# Altium schematic symbol library SIMA.SchLib: 8 symbols
Pins are listed as number, name and electrical type; pins without a type are passive.

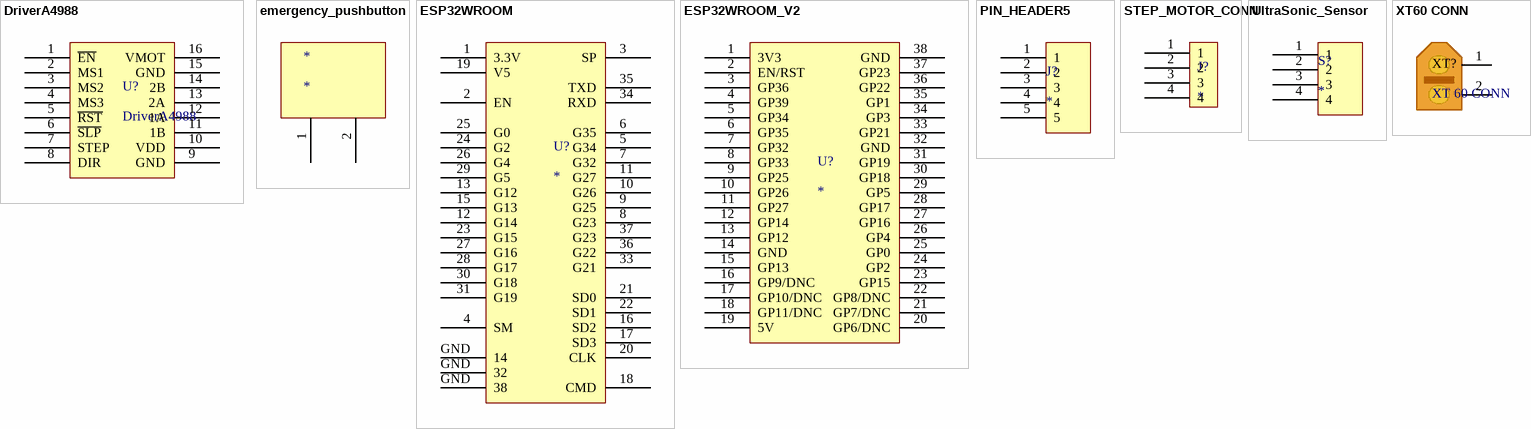
[diagram p0: symbols DriverA4988 to XT60 CONN]

## DriverA4988
designator U?
Stepp Motor Driver
footprint DriverA4988
pins: 1 ~{EN}, 2 MS1, 3 MS2, 4 MS3, 5 ~{RST}, 6 ~{SLP}, 7 STEP, 8 DIR, 9 GND, 10 VDD, 11 1B, 12 1A, 13 2A, 14 2B, 15 GND, 16 VMOT

## emergency_pushbutton
designator *
footprint emergency_footprint
pins: 1 8, 2 7

## ESP32WROOM
designator U?
ESP32 Wroom board
footprint ESP32WROOM
pins: 1 3.3V, 2 EN, 3 SP, 4 SM, 5 G34, 6 G35, 7 G32, 8 G23, 9 G25, 10 G26, 11 G27, 12 G14, 13 G12, 15 G13, 16 SD2, 17 SD3, 18 CMD, 19 V5, 20 CLK, 21 SD0, 22 SD1, 23 G15, 24 G2, 25 G0, 26 G4, 27 G16, 28 G17, 29 G5, 30 G18, 31 G19, 33 G21, 34 RXD, 35 TXD, 36 G22, 37 G23, GND 14, GND 32, GND 38

## ESP32WROOM_V2
designator U?
Pinout Acine ESP32 Wroom plocice, pinovi poslagani po redu
footprint ESP32WROOM
pins: 1 3V3, 2 EN/RST, 3 GP36, 4 GP39, 5 GP34, 6 GP35, 7 GP32, 8 GP33, 9 GP25, 10 GP26, 11 GP27, 12 GP14, 13 GP12, 14 GND, 15 GP13, 16 GP9/DNC, 17 GP10/DNC, 18 GP11/DNC, 19 5V, 20 GP6/DNC, 21 GP7/DNC, 22 GP8/DNC, 23 GP15, 24 GP2, 25 GP0, 26 GP4, 27 GP16, 28 GP17, 29 GP5, 30 GP18, 31 GP19, 32 GND, 33 GP21, 34 GP3, 35 GP1, 36 GP22, 37 GP23, 38 GND

## PIN_HEADER5
designator J?
footprint PIN_HEADER5
pins: 1, 2, 3, 4, 5

## STEP_MOTOR_CONN
designator J?
footprint STEP_MOTOR_CONN
pins: 1, 2, 3, 4

## UltraSonic_Sensor
designator S?
footprint UltraSonic_Sensor
pins: 1, 2, 3, 4

## XT60 CONN
designator XT?, comment XT 60 CONN
footprint XT60_CONN
pins: 1, 2